# Altium footprint library SON50P200X200X81-9N-D.PcbLib: 1 footprints
Each footprint in its own frame and in the unit in brackets; x right, y up, seen from the top. Pads: shape width x height; smd on the part's side, far side on the other; paste and mask are expansions set on the pad; w line width, h text height; cw(c..) or ccw(c..) is an arc to the next point about the centre after c.
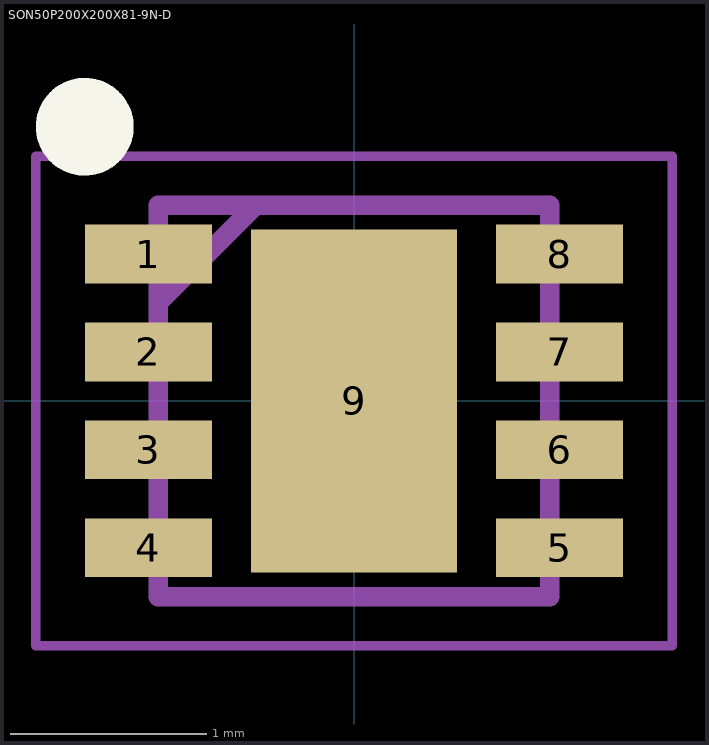
[diagram p0: the footprint, top view; thin cyan lines are the x and y axes]

## SON50P200X200X81-9N-D [mm]
pads (9):
  rect 0.65x0.3 smd: 1(-1.05,0.75) 2(-1.05,0.25) 3(-1.05,-0.25) 4(-1.05,-0.75) 5(1.05,-0.75) 6(1.05,-0.25) 7(1.05,0.25) 8(1.05,0.75)
  rect 1.05x1.75 smd: 9(0,0)
Top Overlay:
  circle w0.25: c-1.375,1.4 r0.125
Mechanical 15:
  lines w0.1: -1,0.5 -0.5,1 ; -1,-1 1,-1 1,1 -1,1 -1,-1
Mechanical 20:
  lines w0.05: -1.625,-1.25 1.625,-1.25 1.625,1.25 -1.625,1.25 -1.625,-1.25